# Altium schematic symbol library LMZ14203HTZ.Schlib: 1 symbol
Pins are listed as number, name and electrical type; pins without a type are passive.

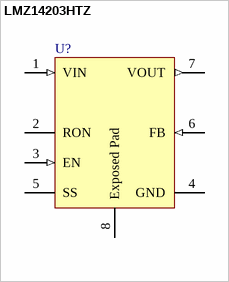
[diagram p0: symbol LMZ14203HTZ]

## LMZ14203HTZ
designator U?
3A Power Module with 42V Maximum Input for High Voltage Output
pins: 1 VIN (in), 2 RON, 3 EN (in), 4 GND (power), 5 SS, 6 FB (in), 7 VOUT (out), 8 Exposed Pad